# EAGLE library part TQ2SA (library FHD-POWER)
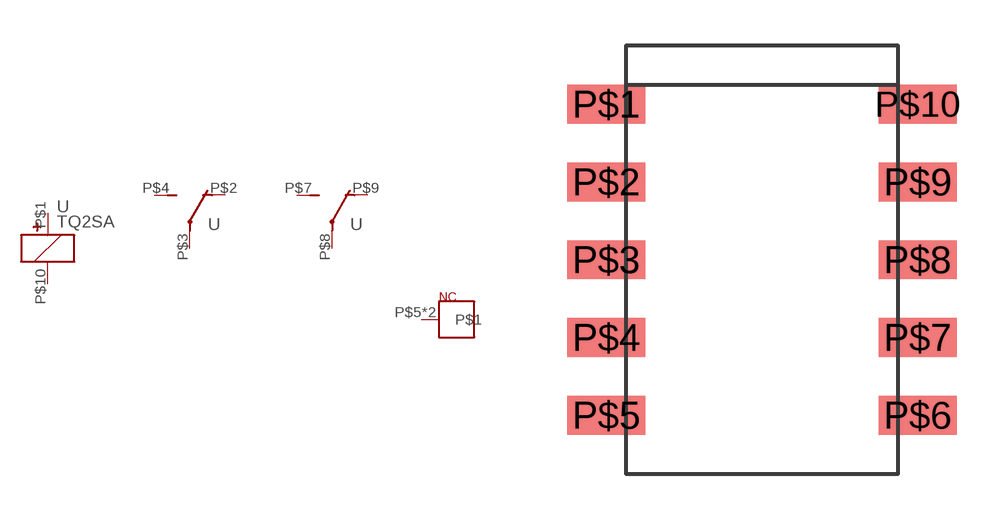
[diagram p2: symbol with the pads of PAN-SA-RELAY; footprint PAN-SA-RELAY]

Designator prefix -; gates G$1=RELAY-COIL G$2=RELAY-SWITCH G$3=RELAY-SWITCH G$4=NC

## TQ2SA  [PAN-SA-RELAY]
P$1  G$1:1  pas
P$2  G$2:CC  pas
P$3  G$2:CON  pas
P$4  G$2:OC  pas
P$5  G$4:P$1  nc
P$6  G$4:P$1  nc
P$7  G$3:OC  pas
P$8  G$3:CON  pas
P$9  G$3:CC  pas
P$10  G$1:2  pas

## Footprint PAN-SA-RELAY (pad centres in mm)
smd 2.54 x 1.27: P$1 -5.08,5.08; P$2 -5.08,2.54; P$3 -5.08,0; P$4 -5.08,-2.54; P$5 -5.08,-5.08; P$6 5.08,-5.08; P$7 5.08,-2.54; P$8 5.08,0; P$9 5.08,2.54; P$10 5.08,5.08